# Altium footprint library OKmePCBLibrary.PcbLib: 194 footprints (part 10 of 13)
Each footprint in its own frame and in the unit in brackets; x right, y up, seen from the top. Pads: shape width x height; smd on the part's side, far side on the other; paste and mask are expansions set on the pad; w line width, h text height; cw(c..) or ccw(c..) is an arc to the next point about the centre after c.
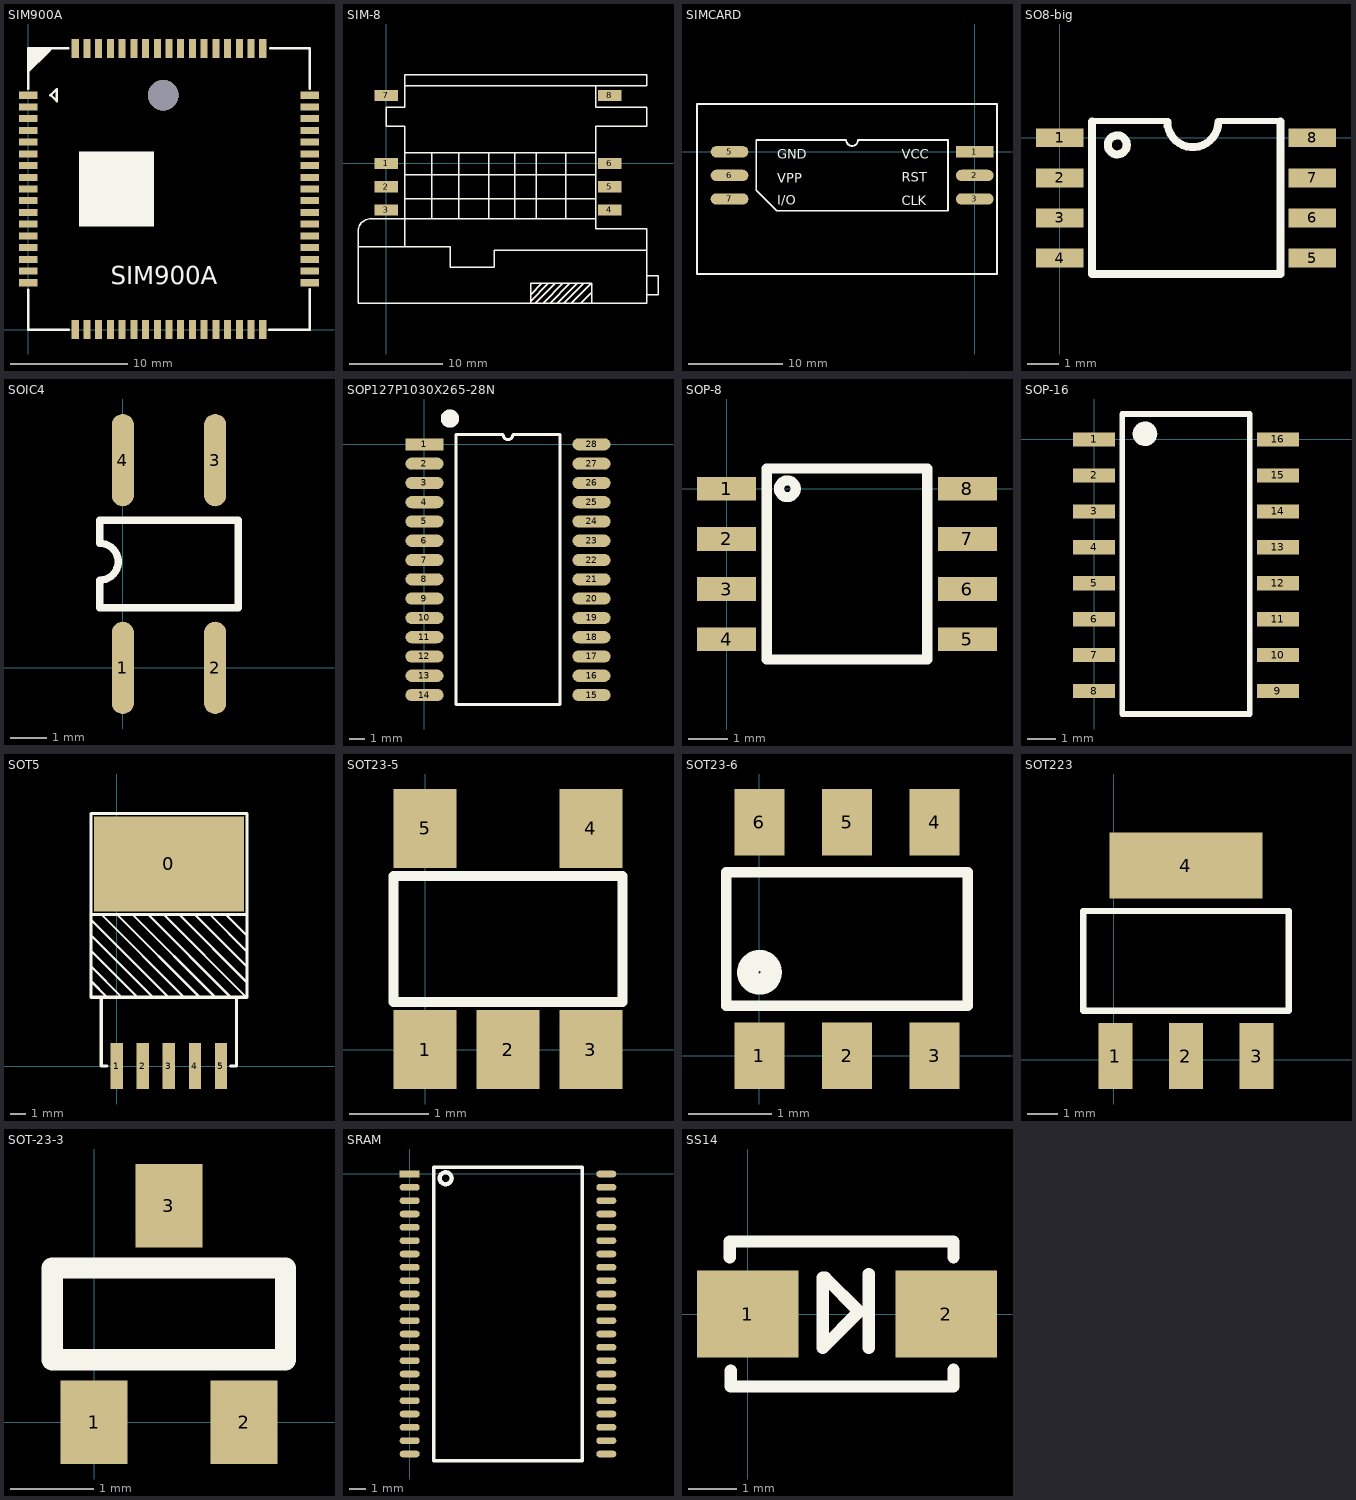
[diagram p9: the footprints below, top view; thin cyan lines are the x and y axes]

## SIM900A [mm]
pads (68):
  rect 1.6x0.6 smd: 1(0,20) 2(0,19) 3(0,18) 4(0,17) 5(0,16) 6(0,15) 7(0,14) 8(0,13) 9(0,12) 10(0,11) 11(0,10) 12(0,9) 13(0,8) 14(0,7) 15(0,6) 16(0,5) 17(0,4) 35(24,4) 36(24,5) 37(24,6) 38(24,7) 39(24,8) 40(24,9) 41(24,10) 42(24,11) 43(24,12) 44(24,13) 45(24,14) 46(24,15) 47(24,16) 48(24,17) 49(24,18) 50(24,19) 51(24,20)
  rect 0.6x1.6 smd: 18(4,0) 19(5,0) 20(6,0) 21(7,0) 22(8,0) 23(9,0) 24(10,0) 25(11,0) 26(12,0) 27(13,0) 28(14,0) 29(15,0) 30(16,0) 31(17,0) 32(18,0) 33(19,0) 34(20,0) 52(20,24) 53(19,24) 54(18,24) 55(17,24) 56(16,24) 57(15,24) 58(14,24) 59(13,24) 60(12,24) 61(11,24) 62(10,24) 63(9,24) 64(8,24) 65(7,24) 66(6,24) 67(5,24) 68(4,24)
via 11.5,20 diameter 2.6 hole 2.6
Top Overlay:
  rectangle: 4.3,8.8 10.7,15.2
  region: 0,21.9 0,24 2.1,24 1.775,23.675
  lines w0.2: 0,3.425 0,0 3.45,0 ; 0,20.55 0,24 3.4,24 ; 20.55,0 24,0 24,3.45 ; 20.625,24 24,24 24,20.55 ; 1.875,20 1.9,20 2.425,20.525 2.425,19.5 1.925,20 1.875,20
  text "SIM900A" at 7.025,3.875 h1.52

## SIM-8 [mm]
pads (8):
  rect 2.5x1.2 smd: 1(0,0) 2(0,-2.5) 3(0,-5) 4(24,-5) 5(24,-2.5) 6(24,0) 7(0,7.3) 8(24,7.3)
Top Overlay:
  lines w0.15: 2,-3.775 22.375,-3.775 ; 2,-1.2 22.45,-1.2 ; 2,1.15 22.425,1.15 ; 2.075,8.325 22.5,8.325 ; 4.9,-5.925 4.9,-1.175 4.9,1.15 ; 7.775,-5.825 7.775,1.15 ; 11,-5.875 11,1.15 ; 13.775,-5.875 13.775,1.15 ; 15.5,-14.775 17.35,-12.925 17.35,-12.875 ; 15.5,-14.075 16.7,-12.875 16.725,-12.875 ; 16.05,-14.95 18.075,-12.925 18.075,-12.875 ; 16.1,-5.9 16.1,1.15 ; 16.85,-15 18.975,-12.875 19,-12.875 ; 17.612,-14.987 19.725,-12.875 ; 18.4,-14.975 20.5,-12.875 20.575,-12.875 ; 19.1,-14.975 21.2,-12.875 ; 19.3,-5.875 19.3,1.15 ; 19.925,-14.975 22.025,-12.875 22.05,-12.875 ; 20.9,-15 21.975,-13.925 22.05,-13.925 ; 22.475,-5.95 2,-5.95 -1.6,-5.95 ccw(c-1.65,-7.325) -3.025,-7.275 -3.025,-8.925 ; 27.975,-14.075 29.175,-14.075 29.175,-13.3 29.175,-12.075 27.975,-12.075 ; 27.975,-9.325 11.575,-9.325 11.575,-11.15 6.9,-11.15 6.9,-9.025 6.8,-8.925 2,-8.925 ; -3.025,-8.925 -3.025,-15 15.5,-15 ; -3.025,-8.925 2,-8.925 ; 2,-8.925 2,4 0,4 0,6 2,6 2,9.5 27.975,9.5 27.975,8.325 22.5,8.325 ; 15.5,-15 22.05,-15 ; 15.5,-15 15.5,-12.875 22.05,-12.875 ; 19.725,-12.875 19.725,-12.875 ; 21.2,-12.875 21.2,-12.875 ; 22.05,-15 27.975,-15 27.975,-7 22.475,-7 22.475,4 27.975,4 27.975,6 22.5,6 22.5,8.325 ; 22.05,-15 22.05,-12.875

## SIMCARD [mm]
pads (6):
  rect 4x1.2 smd: 1(0,0)
  oval 4x1.2 smd: 2(0,-2.5) 3(0,-5) 5(-26,0) 6(-26,-2.5) 7(-26,-5)
Top Overlay:
  lines w0.2: -20.98,-6.25 -2.835,-6.25 -2.835,1.25 -12.375,1.25 cw(c-13,1.25) -13.625,1.25 -23.165,1.25 -23.165,-4.064 -20.98,-6.249 ; 2.358,5.05 -29.447,5.05 -29.447,-12.945 2.362,-12.945 2.362,5.055
  text "VCC" at -7.712,-0.758 h1.02
  text "RST" at -7.712,-3.171 h1.02
  text "CLK" at -7.712,-5.66 h1.02
  text "VPP" at -20.945,-3.298 h1.02
  text "I/O" at -20.945,-5.635 h1.02
  text "GND" at -20.945,-0.733 h1.02

## SO8-big [mm]
pads (8):
  rect 1.5x0.6 smd: 1(0,0) 2(0,-1.27) 3(0,-2.54) 4(0,-3.81) 5(8,-3.81) 6(8,-2.54) 7(8,-1.27) 8(8,0)
Top Overlay:
  circle w0.254: c1.825,-0.225 r0.3
  lines w0.2: 1.016,0.533 3.429,0.533 ; 5.055,0.533 6.934,0.533
  lines w0.25: 3.409,0.508 ccw(c4.216,0.508) 5.024,0.508
  lines w0.254: 1.025,0.508 1.025,-4.318 6.985,-4.318 6.985,0.508

## SOIC4 [mil]
pads (4):
  oval 24x100 smd: 1(0,0) 2(100,0) 3(100,225) 4(0,225)
Top Overlay:
  lines w8: -25,65 -25,95 ccw(c-25,115) -25,135 -25,160 125,160 125,65 -25,65

## SOP127P1030X265-28N [mm] "SOP, 28-Leads, Body 10.5x7.5mm (max), Pitch 1.27mm, IPC Medium Density"
height 2.65
pads (28):
  rect 2.5x0.8 smd: 1(0,0)
  oval 2.5x0.8 smd: 2(0,-1.27) 3(0,-2.54) 4(0,-3.81) 5(0,-5.08) 6(0,-6.35) 7(0,-7.62) 8(0,-8.89) 9(0,-10.16) 10(0,-11.43) 11(0,-12.7) 12(0,-13.97) 13(0,-15.24) 14(0,-16.51) 15(11,-16.51) 16(11,-15.24) 17(11,-13.97) 18(11,-12.7) 19(11,-11.43) 20(11,-10.16) 21(11,-8.89) 22(11,-7.62) 23(11,-6.35) 24(11,-5.08) 25(11,-3.81) 26(11,-2.54) 27(11,-1.27) 28(11,0)
Top Overlay:
  circle w0.6: c1.675,1.7 r0.3
  circle w0.25: c1.625,1.75 r0.125
  lines w0.2: 2.085,-17.145 2.085,0.635 5.182,0.635 ccw(c5.5,0.635) 5.817,0.635 8.915,0.635 8.915,-17.145 2.085,-17.145

## SOP-8 [mm]
pads (8):
  rect 1.5x0.6 smd: 1(0,0) 2(0,-1.27) 3(0,-2.54) 4(0,-3.81) 5(6.096,-3.81) 6(6.096,-2.54) 7(6.096,-1.27) 8(6.096,0)
Top Overlay:
  circle w0.254: c1.538,0 r0.212
  lines w0.254: 1.016,-4.318 5.08,-4.318 5.08,0.508 1.016,0.508 1.016,-4.318

## SOP-16 [mm]
pads (16):
  rect 1.5x0.5 smd: 1(0,0) 2(0,-1.27) 3(0,-2.54) 4(0,-3.81) 5(0,-5.08) 6(0,-6.35) 7(0,-7.62) 8(0,-8.89) 9(6.5,-8.89) 10(6.5,-7.62) 11(6.5,-6.35) 12(6.5,-5.08) 13(6.5,-3.81) 14(6.5,-2.54) 15(6.5,-1.27) 16(6.5,0)
Top Overlay:
  circle w0.15: c1.8,0.2 r0.361
  region: 1.8,0.6 1.9,0.5 2,0.5 2.1,0.4 2,0.4 2.161,0.2 2,-0.1 1.6,-0.1 1.4,0.1 1.4,0.2
  lines w0.2: 1,-9.7 5.5,-9.7 5.5,0.9 1,0.9 1,-9.7

## SOP-28 [mm]

## SOT5 [mm]
pads (6):
  rect 9.8x6.223 smd: 0(3.404,13.208)
  rect 0.8x3 smd: 1(0,0) 2(1.702,0) 3(3.404,0) 4(5.105,0) 5(6.807,0)
Top Overlay:
  lines w0.152: -1.686,5.551 -0.635,4.5 ; -1.672,6.502 0.33,4.5 ; -1.672,7.518 1.346,4.5 ; -1.672,8.534 2.362,4.5 ; -1.672,9.55 3.378,4.5 ; -1.016,9.918 4.402,4.5 ; 0,9.918 5.41,4.508 ; 1.016,9.918 6.426,4.508 ; 2.032,9.918 7.442,4.508 ; 3.048,9.918 8.466,4.5 ; 4.064,9.918 8.514,5.468 ; 5.08,9.918 8.514,6.484 ; 6.071,9.918 8.514,7.475 ; 7.112,9.918 8.514,8.516
  lines w0.203: -1.686,4.5 -1.686,16.5 ; -1.676,4.5 8.514,4.5 8.514,16.5 -1.676,16.5 ; -1.676,9.918 8.514,9.918 ; -1.016,4.5 -1.016,0 -0.635,0 ; 7.442,0 7.823,0 7.823,4.5

## SOT23-5 [mm]
pads (5):
  rect 0.8x1 smd: 1(0,0) 2(1.05,0) 3(2.1,0) 4(2.1,2.8) 5(0,2.8)
Top Overlay:
  lines w0.127: -0.4,0.6 2.5,0.6 2.5,2.2 1.8,2.2 0.35,2.2 -0.4,2.2 -0.4,0.6

## SOT23-6 [mm]
pads (6):
  rect 0.6x0.8 smd: 1(0,0) 2(1.05,0) 3(2.1,0) 4(2.1,2.8) 5(1.05,2.8) 6(0,2.8)
Top Overlay:
  circle w0.254: c0,1 r0.141
  lines w0.127: -0.4,0.6 -0.4,2.2 0.325,2.2 1.775,2.2 2.5,2.2 2.5,0.6 -0.4,0.6

## SOT223 [mm]
pads (4):
  rect 1.1x2.15 smd: 1(0.046,0.123) 2(2.346,0.123) 3(4.646,0.123)
  rect 5x2.15 smd: 4(2.346,6.323)
Top Overlay:
  lines w0.2: -1.004,1.598 5.696,1.598 5.696,4.848 -1.004,4.848 -1.004,1.598

## SOT-23-3 [mm]
pads (3):
  rect 0.8x1 smd: 1(0,0) 2(1.8,0) 3(0.9,2.6)
Top Overlay:
  lines w0.254: -0.5,0.75 -0.5,1.85 2.3,1.85 2.3,0.75 -0.5,0.75

## SRAM [mm]
pads (44):
  rect 1.2x0.4 smd: 1(0,0)
  oval 1.2x0.4 smd: 2(0,-0.8) 3(0,-1.6) 4(0,-2.4) 5(0,-3.2) 6(0,-4) 7(0,-4.8) 8(0,-5.6) 9(0,-6.4) 10(0,-7.2) 11(0,-8) 12(0,-8.8) 13(0,-9.6) 14(0,-10.4) 15(0,-11.2) 16(0,-12) 17(0,-12.8) 18(0,-13.6) 19(0,-14.4) 20(0,-15.2) 21(0,-16) 22(0,-16.8) 23(11.8,-16.8) 24(11.8,-16) 25(11.8,-15.2) 26(11.8,-14.4) 27(11.8,-13.6) 28(11.8,-12.8) 29(11.8,-12) 30(11.8,-11.2) 31(11.8,-10.4) 32(11.8,-9.6) 33(11.8,-8.8) 34(11.8,-8) 35(11.8,-7.2) 36(11.8,-6.4) 37(11.8,-5.6) 38(11.8,-4.8) 39(11.8,-4) 40(11.8,-3.2) 41(11.8,-2.4) 42(11.8,-1.6) 43(11.8,-0.8) 44(11.8,0)
Top Overlay:
  circle w0.254: c2.159,-0.254 r0.359
  lines w0.2: 1.435,-17.2 1.435,0.4 10.365,0.4 10.365,-17.2 1.435,-17.2

## SS14 [mm]
pads (2):
  rect 2.1x1.8 smd: 1(0,0) 2(4.1,0)
Top Overlay:
  lines w0.254: -0.375,1.175 -0.375,1.5 4.25,1.5 4.25,1.175 ; -0.35,-1.5 -0.35,-1.175 ; -0.325,-1.5 4.25,-1.5 4.25,-1.15 ; 1.55,0.75 1.55,-0.7 2.3,0.05 ; 1.6,0.75 2.3,0.05 ; 2.5,-0.7 2.5,0.825 ; 2.3,0.05 2.3,0.05